# EAGLE library part ADT7420 (library Temperatur Sensor -_ADT7420)
Name des Bauteiles: -->ADT7420 Daten: High performance Temperature accuracy ±0.20°C from −10°C to +85°C at 3.0 V ±0.25°C from −20°C to +105°C from 2.7 V to 3.3 V 16-bit resolution: 0.0078°C Ultralow temperature drift: 0.0073°C NIST traceable or equivalent Fast first temperature conversion on power-up of 6 ms Easy implementation No temperature calibration/correction required by user No linearity correction required Low power Power-saving 1 sample per second (SPS) mode 700 μW typical at 3.3 V in normal mode 7 μW typical at 3.3 V in shutdown mode Wide operating ranges Temperature range: −40°C to +150°C Voltage range: 2.7 V to 5.5 V Artikelnummer:#keine feste Artikelnummer vorhanden / Atikel nicht lagermäßig vorhanden! Datenblatt:www.alldatasheet.com __________________________________________ generated by Eagle Description Tool am : 28.01.2014 09:45:27 erstellt von: Hm
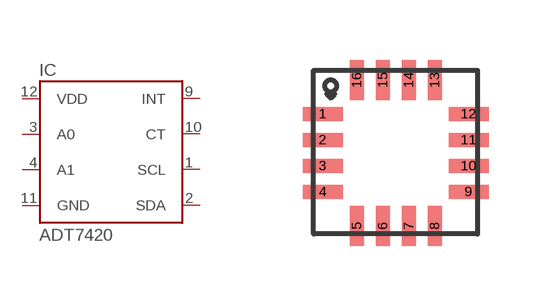
[diagram p0: symbol with the pads of CP-16-17; footprint CP-16-17]

Designator prefix IC

## ADT7420SMD  [CP-16-17]
1  SCL
2  SDA
3  A0
4  A1
9  INT
10  CT
11  GND
12  VDD

## Footprint CP-16-17 (pad centres in mm)
smd 1 x 0.35: 1 -0.2,0; 2 -0.2,-0.65; 3 -0.2,-1.3; 4 -0.2,-1.95; 9 3.45,-1.95; 10 3.45,-1.3; 11 3.45,-0.65; 12 3.45,0
smd 0.35 x 1: 5 0.65,-2.8; 6 1.3,-2.8; 7 1.95,-2.8; 8 2.6,-2.8; 13 2.6,0.85; 14 1.95,0.85; 15 1.3,0.85; 16 0.65,0.85